# EAGLE library part L293DD (library tmxk)
双路直流电机控制芯片
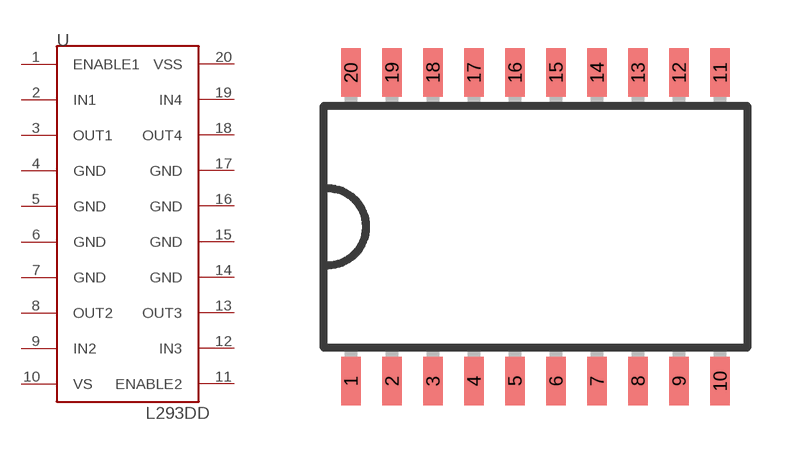
[diagram p4: symbol with the pads of SOP20; footprint SOP20]

Designator prefix U

## L293DD  [SOP20]
1  ENABLE1
2  IN1
3  OUT1
4  GND
5  GND
6  GND
7  GND
8  OUT2
9  IN2
10  VS
11  ENABLE2
12  IN3
13  OUT3
14  GND
15  GND
16  GND
17  GND
18  OUT4
19  IN4
20  VSS

## Footprint SOP20 (pad centres in mm)
SO20 / SOT163-1 Reflow soldering Philips SC01_Mounting_1996.pdf
smd 0.6 x 1.5: 1 -5.715,-4.78; 2 -4.445,-4.78; 3 -3.175,-4.78; 4 -1.905,-4.78; 5 -0.635,-4.78; 6 0.635,-4.78; 7 1.905,-4.78; 8 3.175,-4.78; 9 4.445,-4.78; 10 5.715,-4.78; 11 5.715,4.78; 12 4.445,4.78; 13 3.175,4.78; 14 1.905,4.78; 15 0.635,4.78; 16 -0.635,4.78; 17 -1.905,4.78; 18 -3.175,4.78; 19 -4.445,4.78; 20 -5.715,4.78